# Altium footprint library PinHeader.PcbLib: 118 footprints (part 4 of 8)
Each footprint in its own frame and in the unit in brackets; x right, y up, seen from the top. Pads: shape width x height; smd on the part's side, far side on the other; paste and mask are expansions set on the pad; w line width, h text height; cw(c..) or ccw(c..) is an arc to the next point about the centre after c.
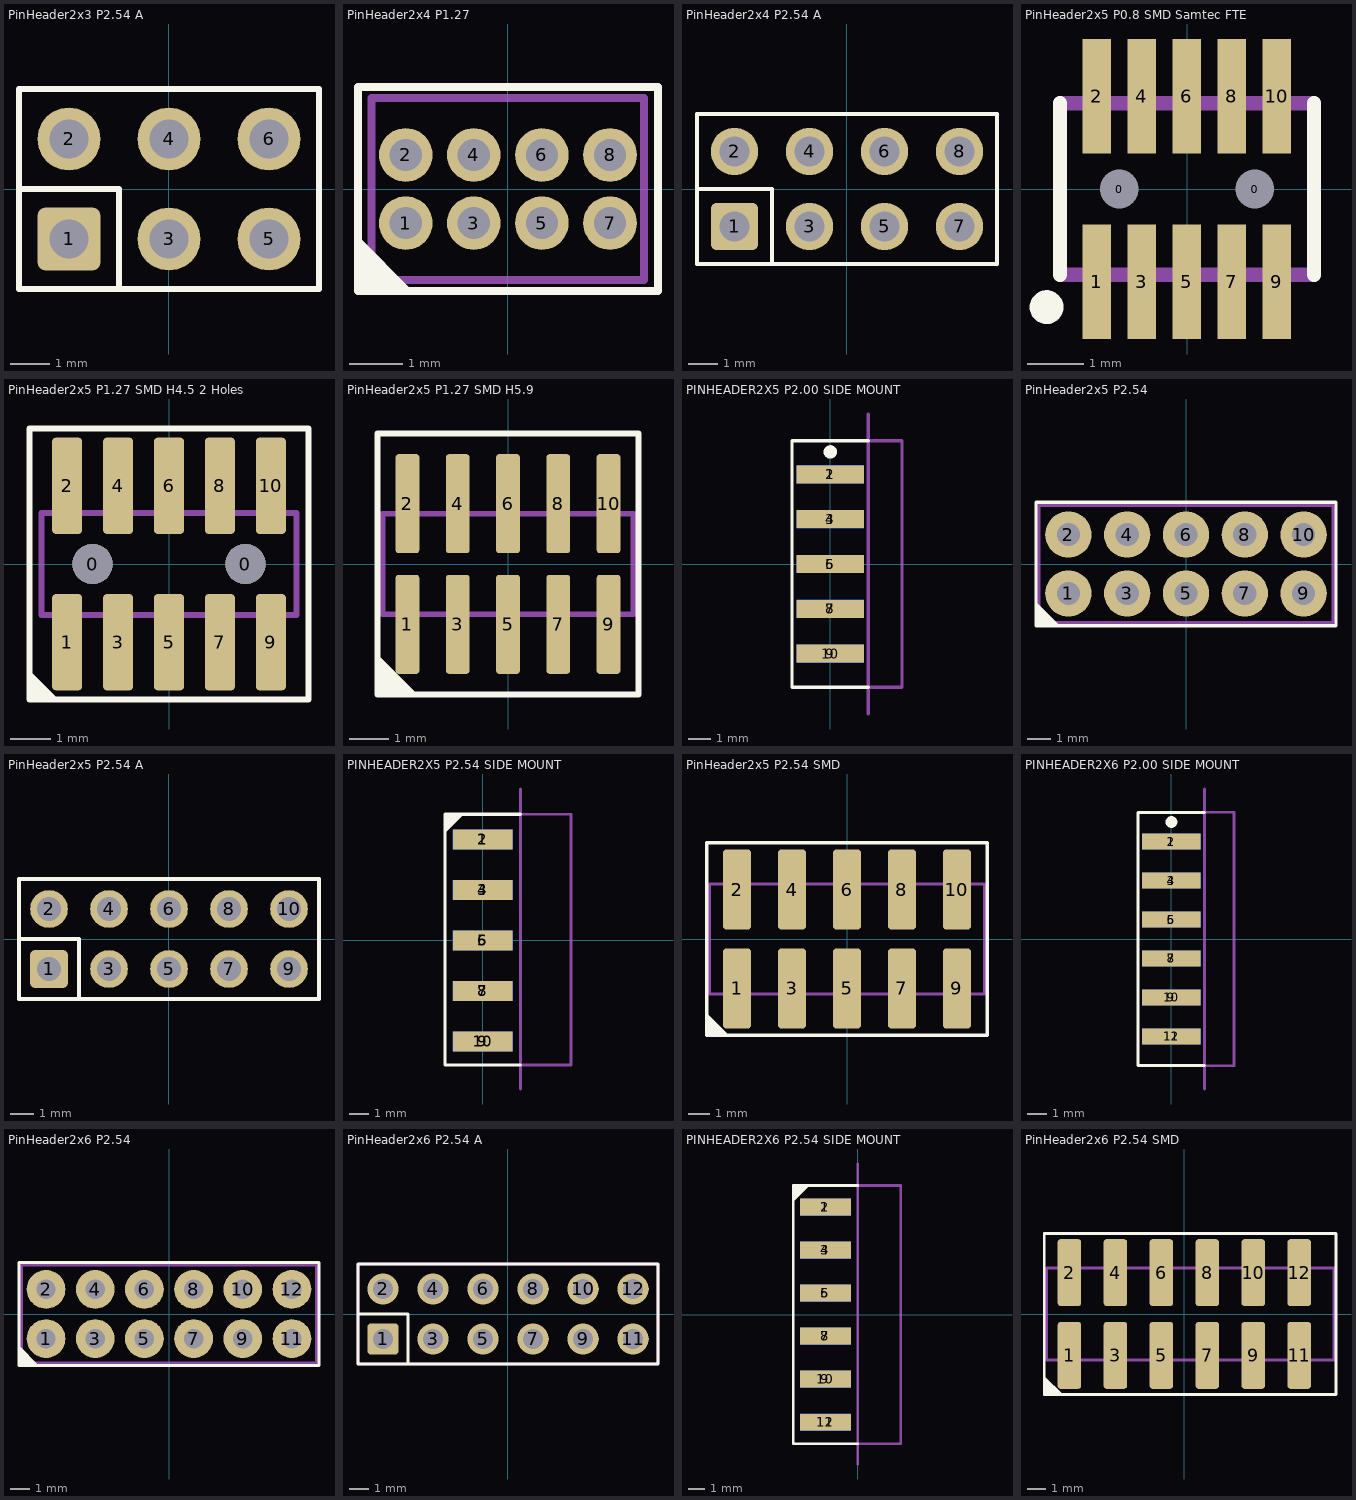
[diagram p3: the footprints below, top view; thin cyan lines are the x and y axes]

## PinHeader2x3 P2.54 A [mm] "Plug connector"
height 8.5
pads (6):
  rrect25% 1.6x1.6 hole 1: 1(-2.54,-1.27)
  round 1.6 hole 1: 2(-2.54,1.27) 3(0,-1.27) 4(0,1.27) 5(2.54,-1.27) 6(2.54,1.27)
Top Overlay:
  lines w0.15: -3.81,0 -1.27,0 -1.27,-2.54 ; -3.81,-2.54 -3.81,2.54 3.81,2.54 3.81,-2.54 -3.81,-2.54
Mechanical 13:
  lines w0.15: -3.81,-2.54 3.81,-2.54 3.81,2.54 -3.81,2.54 -3.81,-2.54
3D body: height 2.5, standoff 0.1, extent -3.81,-2.54 3.81,2.54
3D body: height 8.5, standoff 2.6, extent -2.857,-1.587 2.857,1.587

## PinHeader2x4 P1.27 [mm] "Plug connector"
height 5.3
pads (8):
  round 1 hole 0.6: 1(-1.905,-0.635) 2(-1.905,0.635) 3(-0.635,-0.635) 4(-0.635,0.635) 5(0.635,-0.635) 6(0.635,0.635) 7(1.905,-0.635) 8(1.905,0.635)
Top Overlay:
  region: -2.795,-1.9 -2.795,-0.884 -1.779,-1.9
  lines w0.15: -2.695,-1.9 -2.73,-1.9 -2.795,-1.9 ; -2.795,-1.9 2.8,-1.9 2.8,1.9 -2.795,1.9 -2.795,1.5 -2.795,-1.9
Mechanical 13:
  lines w0.15: -2.54,-1.7 -2.54,1.7 2.54,1.7 2.54,-1.7 -2.54,-1.7
3D body "62200821121 (rev1).stp": height 5.31, standoff -2.29, extent -2.54,-1.7 2.54,1.7

## PinHeader2x4 P2.54 A [mm] "Plug connector"
height 8.5
pads (8):
  rrect25% 1.6x1.6 hole 1: 1(-3.81,-1.27)
  round 1.6 hole 1: 2(-3.81,1.27) 3(-1.27,-1.27) 4(-1.27,1.27) 5(1.27,-1.27) 6(1.27,1.27) 7(3.81,-1.27) 8(3.81,1.27)
Top Overlay:
  lines w0.15: -5.08,0 -2.54,0 -2.54,-2.54 ; -5.08,-2.54 5.08,-2.54 5.08,2.54 -5.08,2.54 -5.08,-2.54
Mechanical 13:
  lines w0.15: -5.08,-2.54 -5.08,2.54 5.08,2.54 5.08,-2.54 -5.08,-2.54
3D body: height 8.5, standoff 2.6, extent -4.127,-1.587 4.127,1.587
3D body: height 2.5, standoff 0.1, extent -5.08,-2.54 5.08,2.54

## PinHeader2x5 P0.8 SMD Samtec FTE [mil] "Plug connector"
height 141.73
pads (12):
  round 10 hole 27 unplated mask+18.5: 0(-47.59,0) 0(47.24,0)
  rect 20x80 smd mask+2: 1(-63.34,-65) 2(-63.34,65) 3(-31.84,-65) 4(-31.84,65) 5(-0.34,-65) 6(-0.34,65) 7(31.16,-65) 8(31.16,65) 9(62.66,-65) 10(62.66,65)
Top Overlay:
  circle w11.81: c-98.43,-82.68 r5.91
  lines w10: -89.09,-60 -89.09,60 ; 88.74,-60 88.74,60
Mechanical 1:
  lines w10: -89.09,-60 88.74,-60 88.74,60 -89.09,60 -89.09,-60
3D body: height 141.73, standoff 0, extent 57.09,17.72 68.9,29.53
3D body: height 141.73, standoff 0, extent 57.08,-29.53 68.89,-17.72
3D body: height 11.81, standoff 0, extent 57.09,17.72 68.9,90.55
3D body: height 11.81, standoff 0, extent 57.08,-90.55 68.89,-17.72
3D body: height 141.73, standoff 0, extent 25.59,17.72 37.41,29.53
3D body: height 141.73, standoff 0, extent 25.59,-29.53 37.4,-17.72
3D body: height 11.81, standoff 0, extent 25.59,17.72 37.4,90.55
3D body: height 11.81, standoff 0, extent 25.59,-90.55 37.4,-17.72
3D body: height 141.73, standoff 0, extent -68.89,17.72 -57.08,29.53
3D body: height 141.73, standoff 0, extent -68.9,-29.53 -57.09,-17.72
3D body: height 11.81, standoff 0, extent -68.89,17.72 -57.08,90.55
3D body: height 11.81, standoff 0, extent -68.9,-90.55 -57.09,-17.72
3D body: height 141.73, standoff 0, extent -37.4,17.72 -25.59,29.53
3D body: height 141.73, standoff 0, extent -37.41,-29.53 -25.59,-17.72
3D body: height 11.81, standoff 0, extent -37.4,17.72 -25.59,90.55
3D body: height 11.81, standoff 0, extent -37.4,-90.55 -25.59,-17.72
3D body: height 11.81, standoff 0, extent -5.91,-90.55 5.9,-17.72
3D body: height 11.81, standoff 0, extent -5.9,17.72 5.91,90.55
3D body: height 141.73, standoff 0, extent -5.91,-29.53 5.9,-17.72
3D body: height 141.73, standoff 0, extent -5.9,17.72 5.91,29.53
3D body: height 66.93, standoff 0, extent -89.09,-60 88.74,60

## PinHeader2x5 P1.27 SMD H4.5 2 Holes [mm] "Plug connector SMD"
height 4.5
pads (12):
  round 1 hole 1 unplated: 0(-1.905,0) 0(1.905,0)
  rrect25% 0.75x2.4 smd: 1(-2.54,-1.95) 2(-2.54,1.95) 3(-1.27,-1.95) 4(-1.27,1.95) 5(0,-1.95) 6(0,1.95) 7(1.27,-1.95) 8(1.27,1.95) 9(2.54,-1.95) 10(2.54,1.95)
Top Overlay:
  region: -3.475,-3.375 -3.475,-2.667 -2.767,-3.375
  lines w0.15: -3.475,-3.375 3.475,-3.375 3.475,3.375 -3.475,3.375 -3.475,-3.375
Mechanical 13:
  lines w0.15: -3.175,-1.27 -3.175,1.27 3.175,1.27 3.175,-1.27 -3.175,-1.27
3D body: height 4.5, standoff 0, extent -1.47,0.448 -1.07,0.823
3D body: height 4.5, standoff 0, extent -2.74,0.448 -2.34,0.823
3D body: height 4.5, standoff 0, extent -2.74,-0.822 -2.34,-0.447
3D body: height 4.5, standoff 0, extent -1.47,-0.822 -1.07,-0.447
3D body: height 4.5, standoff 0, extent -0.2,-0.822 0.2,-0.447
3D body: height 4.5, standoff 0, extent 1.07,-0.822 1.47,-0.447
3D body: height 4.5, standoff 0, extent 2.34,-0.822 2.74,-0.447
3D body: height 4.5, standoff 0, extent 2.34,0.448 2.74,0.823
3D body: height 4.5, standoff 0, extent 1.07,0.448 1.47,0.823
3D body: height 4.5, standoff 0, extent -0.2,0.448 0.2,0.823
3D body: height 1.5, standoff 0.4, extent -3.175,-1.275 3.175,1.3

## PinHeader2x5 P1.27 SMD H5.9 [mm] "Plug connector"
height 5.9
pads (10):
  rrect25% 0.6x2.5 smd: 1(-2.54,-1.524) 2(-2.54,1.524) 3(-1.27,-1.524) 4(-1.27,1.524) 5(0,-1.524) 6(0,1.524) 7(1.27,-1.524) 8(1.27,1.524) 9(2.54,-1.524) 10(2.54,1.524)
Top Overlay:
  region: -3.302,-3.302 -3.302,-2.286 -2.286,-3.302
  lines w0.15: -3.302,-3.302 -3.302,3.302 3.302,3.302 3.302,-3.302 -3.302,-3.302
Mechanical 13:
  lines w0.15: -3.175,-1.27 3.175,-1.27 3.175,1.27 -3.175,1.27 -3.175,-1.27
3D body: height 5.9, standoff 0, extent -2.74,0.435 -2.34,0.835
3D body: height 0.4, standoff 0, extent -2.74,0.435 -2.34,2.54
3D body: height 5.9, standoff 0, extent -1.47,0.435 -1.07,0.835
3D body: height 0.4, standoff 0, extent -1.47,0.435 -1.07,2.54
3D body: height 5.9, standoff 0, extent -0.2,0.435 0.2,0.835
3D body: height 0.4, standoff 0, extent -0.2,0.435 0.2,2.54
3D body: height 5.9, standoff 0, extent 1.07,0.435 1.47,0.835
3D body: height 0.4, standoff 0, extent 1.07,0.435 1.47,2.54
3D body: height 5.9, standoff 0, extent 2.34,0.435 2.74,0.835
3D body: height 0.4, standoff 0, extent 2.34,0.435 2.74,2.54
3D body: height 5.9, standoff 0, extent 2.34,-0.835 2.74,-0.435
3D body: height 0.4, standoff 0, extent 2.34,-2.54 2.74,-0.435
3D body: height 5.9, standoff 0, extent 1.07,-0.835 1.47,-0.435
3D body: height 0.4, standoff 0, extent 1.07,-2.54 1.47,-0.435
3D body: height 5.9, standoff 0, extent -2.74,-0.835 -2.34,-0.435
3D body: height 0.4, standoff 0, extent -2.74,-2.54 -2.34,-0.435
3D body: height 5.9, standoff 0, extent -1.47,-0.835 -1.07,-0.435
3D body: height 0.4, standoff 0, extent -1.47,-2.54 -1.07,-0.435
3D body: height 0.4, standoff 0, extent -0.2,-2.54 0.2,-0.435
3D body: height 2.92, standoff 0.4, extent -3.175,-1.27 3.175,1.27
3D body: height 5.9, standoff 0, extent -0.2,-0.835 0.2,-0.435

## PINHEADER2X5 P2.00 SIDE MOUNT [mm] "Plug connector Mounted on PCB side"
height 2
pads (10):
  rect 3x0.8 smd: 1(0,4) 3(0,2) 5(0,0) 7(0,-2) 9(0,-4)
  rect 3x0.8 smd far side: 2(0,4) 4(0,2) 6(0,0) 8(0,-2) 10(0,-4)
Top Overlay:
  circle w0.3: c0,5 r0.15
  lines w0.152: 1.7,-5.5 -1.71,-5.5 -1.71,5.5 1.7,5.5
Bottom Overlay:
  lines w0.152: 1.7,-5.5 -1.71,-5.5 -1.71,5.5 1.7,5.5
Mechanical 1:
  lines w0.15: 1.7,-6.694 1.7,-5.5 ; 1.7,5.5 1.7,6.694
Mechanical 13:
  lines w0.15: 1.7,-5.5 3.2,-5.5 3.2,5.5 1.7,5.5 1.7,-5.5
Mechanical 14:
  lines w0.15: 1.7,-5.5 1.7,5.5 3.2,5.5 3.2,-5.5 1.7,-5.5
Mechanical 15:
  lines w0.05: 1.7,-5.5 -1.71,-5.5 -1.71,5.5 1.7,5.5
3D body: height 0.5, standoff 0, extent -1.3,-4.259 6.7,-3.741
3D body: height 0.5, standoff 0, extent -1.3,-2.259 6.7,-1.741
3D body: height 0.5, standoff 0, extent -1.3,-0.259 6.7,0.259
3D body: height 0.5, standoff 0, extent -1.3,1.741 6.7,2.259
3D body: height 0.5, standoff 0, extent -1.3,3.741 6.7,4.259
3D body: height 1.75, standoff -1, extent 1.7,-5.5 3.2,5.5
3D body: height 0.5, standoff 0, extent -1.3,-4.259 6.7,-3.741
3D body: height 0.5, standoff 0, extent -1.3,-2.259 6.7,-1.741
3D body: height 0.5, standoff 0, extent -1.3,-0.259 6.7,0.259
3D body: height 0.5, standoff 0, extent -1.3,1.741 6.7,2.259
3D body: height 0.5, standoff 0, extent -1.3,3.741 6.7,4.259
3D body: height 1.75, standoff -1, extent 1.7,-5.5 3.2,5.5

## PinHeader2x5 P2.54 [mm] "Plug connector"
height 8.5
pads (10):
  round 2 hole 1: 1(-5.08,-1.27) 2(-5.08,1.27) 3(-2.54,-1.27) 4(-2.54,1.27) 5(0,-1.27) 6(0,1.27) 7(2.54,-1.27) 8(2.54,1.27) 9(5.08,-1.27) 10(5.08,1.27)
Top Overlay:
  region: -6.477,-2.667 -6.477,-1.651 -5.461,-2.667
  lines w0.15: -6.477,-2.667 6.477,-2.667 6.477,2.667 -6.477,2.667 -6.477,-2.667
Mechanical 13:
  lines w0.15: -6.35,-2.54 -6.35,2.54 6.35,2.54 6.35,-2.54 -6.35,-2.54
3D body: height 8.5, standoff -2.5, extent -5.46,-1.65 -4.7,-0.89
3D body: height 8.5, standoff -2.5, extent 4.7,-1.65 5.461,-0.89
3D body: height 8.5, standoff -2.5, extent -2.92,-1.65 -2.16,-0.89
3D body: height 8.5, standoff -2.5, extent -0.38,-1.65 0.381,-0.89
3D body: height 8.5, standoff -2.5, extent 2.16,-1.65 2.921,-0.89
3D body: height 8.5, standoff -2.5, extent 2.16,0.89 2.921,1.65
3D body: height 8.5, standoff -2.5, extent -0.38,0.89 0.381,1.65
3D body: height 8.5, standoff -2.5, extent -2.92,0.89 -2.16,1.65
3D body: height 8.5, standoff -2.5, extent 4.7,0.89 5.461,1.65
3D body: height 8.5, standoff -2.5, extent -5.46,0.89 -4.7,1.65
3D body: height 2.54, standoff 0, extent -6.35,-2.54 6.35,2.54

## PinHeader2x5 P2.54 A [mm] "Plug connector"
height 8.5
pads (10):
  rrect25% 1.6x1.6 hole 1: 1(-5.08,-1.27)
  round 1.6 hole 1: 2(-5.08,1.27) 3(-2.54,-1.27) 4(-2.54,1.27) 5(0,-1.27) 6(0,1.27) 7(2.54,-1.27) 8(2.54,1.27) 9(5.08,-1.27) 10(5.08,1.27)
Top Overlay:
  lines w0.15: -6.35,0 -3.81,0 -3.81,-2.54 ; -6.35,-2.54 -6.35,2.54 6.35,2.54 6.35,-2.54 -6.35,-2.54
Mechanical 13:
  lines w0.15: -6.35,-2.54 6.35,-2.54 6.35,2.54 -6.35,2.54 -6.35,-2.54
3D body: height 2.5, standoff 0.1, extent -6.35,-2.54 6.35,2.54
3D body: height 8.5, standoff 2.6, extent -5.397,-1.587 5.397,1.587

## PINHEADER2X5 P2.54 SIDE MOUNT [mm] "Plug connector Mounted on PCB side"
height 2.54
pads (10):
  rect 3x1 smd: 1(0,5.08) 3(0,2.54) 5(0,0) 7(0,-2.54) 9(0,-5.08)
  rect 3x1 smd far side: 2(0,5.08) 4(0,2.54) 6(0,0) 8(0,-2.54) 10(0,-5.08)
Top Overlay:
  region: -1.905,6.35 -1.905,5.397 -0.952,6.35
  lines w0.152: 1.905,-6.27 -1.905,-6.27 -1.905,6.35 1.905,6.35
Bottom Overlay:
  lines w0.152: 1.905,-6.27 -1.905,-6.27 -1.905,6.35 1.905,6.35
Mechanical 1:
  lines w0.15: 1.905,-7.47 1.905,-6.276 ; 1.905,6.426 1.905,7.62
Mechanical 13:
  lines w0.15: 1.905,-6.27 1.905,6.35 4.445,6.35 4.445,-6.27 1.905,-6.27
Mechanical 14:
  lines w0.15: 1.905,-6.27 4.445,-6.27 4.445,6.35 1.905,6.35 1.905,-6.27
Mechanical 15:
  lines w0.05: 1.905,-6.27 -1.905,-6.27 -1.905,6.35 1.905,6.35
3D body: height 1.75, standoff -1, extent 1.905,-6.27 4.445,6.35
3D body: height 0.83, standoff 0.2, extent -0.952,4.763 10.478,5.397
3D body: height 0.83, standoff 0.2, extent -0.952,2.222 10.478,2.857
3D body: height 0.83, standoff 0.2, extent -0.952,-0.318 10.478,0.318
3D body: height 0.83, standoff 0.2, extent -0.952,-2.857 10.478,-2.222
3D body: height 0.83, standoff 0.2, extent -0.952,-5.397 10.478,-4.763
3D body: height 1.75, standoff -1, extent 1.905,-6.27 4.445,6.35
3D body: height 1.75, standoff -1, extent 1.905,-6.27 4.445,6.35
3D body: height 0.83, standoff 0.2, extent -0.952,4.763 10.478,5.397
3D body: height 0.83, standoff 0.2, extent -0.952,2.222 10.478,2.857
3D body: height 0.83, standoff 0.2, extent -0.952,-2.857 10.478,-2.222
3D body: height 0.83, standoff 0.2, extent -0.952,-0.318 10.478,0.318
3D body: height 0.83, standoff 0.2, extent -0.952,-5.397 10.478,-4.763

## PinHeader2x5 P2.54 SMD [mm] "Plug connector"
height 8.5
pads (10):
  rrect25% 1.3x3.7 smd: 1(-5.08,-2.286) 2(-5.08,2.286) 3(-2.54,-2.286) 4(-2.54,2.286) 5(0,-2.286) 6(0,2.286) 7(2.54,-2.286) 8(2.54,2.286) 9(5.08,-2.286) 10(5.08,2.286)
Top Overlay:
  region: -6.477,-4.445 -6.477,-3.429 -5.461,-4.445
  lines w0.15: -6.477,-4.445 -6.477,4.445 6.477,4.445 6.477,-4.445 -6.477,-4.445
Mechanical 13:
  lines w0.15: -6.35,-2.54 6.35,-2.54 6.35,2.54 -6.35,2.54 -6.35,-2.54
3D body: height 8.5, standoff 0, extent -5.461,0.89 -4.7,1.651
3D body: height 8.5, standoff 0, extent 4.7,0.89 5.461,1.651
3D body: height 8.5, standoff 0, extent -2.921,0.89 -2.16,1.651
3D body: height 8.5, standoff 0, extent -0.38,0.89 0.381,1.651
3D body: height 8.5, standoff 0, extent 2.16,0.89 2.921,1.651
3D body: height 0.76, standoff 0, extent 4.7,0.89 5.461,3.429
3D body: height 0.76, standoff 0, extent 2.16,0.89 2.921,3.429
3D body: height 0.76, standoff 0, extent -0.38,0.89 0.381,3.429
3D body: height 0.76, standoff 0, extent -2.921,0.89 -2.16,3.429
3D body: height 0.76, standoff 0, extent -5.461,0.89 -4.7,3.429
3D body: height 0.76, standoff 0, extent 4.7,-3.429 5.461,-0.889
3D body: height 0.76, standoff 0, extent 2.16,-3.429 2.921,-0.889
3D body: height 0.76, standoff 0, extent -0.38,-3.429 0.381,-0.889
3D body: height 0.76, standoff 0, extent -2.92,-3.429 -2.159,-0.889
3D body: height 0.76, standoff 0, extent -5.46,-3.429 -4.699,-0.889
3D body: height 3.56, standoff 1.27, extent -6.35,-2.54 6.35,2.54
3D body: height 8.5, standoff 0, extent -5.46,-1.65 -4.699,-0.889
3D body: height 8.5, standoff 0, extent 4.7,-1.65 5.461,-0.889
3D body: height 8.5, standoff 0, extent -2.92,-1.65 -2.159,-0.889
3D body: height 8.5, standoff 0, extent -0.38,-1.65 0.381,-0.889
3D body: height 8.5, standoff 0, extent 2.16,-1.65 2.921,-0.889

## PINHEADER2X6 P2.00 SIDE MOUNT [mm] "Plug connector Mounted on PCB side"
height 2
pads (12):
  rect 3x0.8 smd: 1(0,5) 3(0,3) 5(0,1) 7(0,-1) 9(0,-3) 11(0,-5)
  rect 3x0.8 smd far side: 2(0,5) 4(0,3) 6(0,1) 8(0,-1) 10(0,-3) 12(0,-5)
Top Overlay:
  circle w0.3: c0,6 r0.15
  lines w0.152: 1.7,-6.5 -1.71,-6.5 -1.71,6.5 1.7,6.5
Bottom Overlay:
  lines w0.152: 1.7,-6.5 -1.71,-6.5 -1.71,6.5 1.7,6.5
Mechanical 1:
  lines w0.15: 1.7,-7.694 1.7,-6.5 ; 1.7,6.5 1.7,7.694
Mechanical 13:
  lines w0.15: 1.7,-6.5 3.2,-6.5 3.2,6.5 1.7,6.5 1.7,-6.5
Mechanical 14:
  lines w0.15: 1.7,-6.5 1.7,6.5 3.2,6.5 3.2,-6.5 1.7,-6.5
Mechanical 15:
  lines w0.05: 1.7,-6.5 -1.71,-6.5 -1.71,6.5 1.7,6.5
3D body: height 0.5, standoff 0, extent -1.3,-3.259 6.7,-2.741
3D body: height 0.5, standoff 0, extent -1.3,-1.259 6.7,-0.741
3D body: height 0.5, standoff 0, extent -1.3,0.741 6.7,1.259
3D body: height 0.5, standoff 0, extent -1.3,2.741 6.7,3.259
3D body: height 0.5, standoff 0, extent -1.3,4.741 6.7,5.259
3D body: height 1.75, standoff -1, extent 1.7,-6.5 3.2,6.5
3D body: height 0.5, standoff 0, extent -1.3,-5.259 6.7,-4.741
3D body: height 0.5, standoff 0, extent -1.3,-3.259 6.7,-2.741
3D body: height 0.5, standoff 0, extent -1.3,-1.259 6.7,-0.741
3D body: height 0.5, standoff 0, extent -1.3,0.741 6.7,1.259
3D body: height 0.5, standoff 0, extent -1.3,2.741 6.7,3.259
3D body: height 0.5, standoff 0, extent -1.3,4.741 6.7,5.259
3D body: height 1.75, standoff -1, extent 1.7,-6.5 3.2,6.5
3D body: height 0.5, standoff 0, extent -1.3,-5.259 6.7,-4.741

## PinHeader2x6 P2.54 [mm] "Plug connector"
height 8.5
pads (12):
  round 2 hole 1: 1(-6.35,-1.27) 2(-6.35,1.27) 3(-3.81,-1.27) 4(-3.81,1.27) 5(-1.27,-1.27) 6(-1.27,1.27) 7(1.27,-1.27) 8(1.27,1.27) 9(3.81,-1.27) 10(3.81,1.27) 11(6.35,-1.27) 12(6.35,1.27)
Top Overlay:
  region: -7.747,-2.667 -7.747,-1.651 -6.731,-2.667
  lines w0.15: -7.747,-2.667 -7.747,2.667 7.747,2.667 7.747,-2.667 -7.747,-2.667
Mechanical 13:
  lines w0.15: -7.62,-2.54 -7.62,2.54 7.62,2.54 7.62,-2.54 -7.62,-2.54
3D body: height 2.54, standoff 0, extent -7.62,-2.54 7.62,2.54
3D body: height 8.5, standoff -2.5, extent -6.73,0.89 -5.97,1.65
3D body: height 8.5, standoff -2.5, extent 3.43,0.89 4.191,1.65
3D body: height 8.5, standoff -2.5, extent -4.19,0.89 -3.43,1.65
3D body: height 8.5, standoff -2.5, extent -1.65,0.89 -0.889,1.65
3D body: height 8.5, standoff -2.5, extent 0.89,0.89 1.651,1.65
3D body: height 8.5, standoff -2.5, extent 5.97,0.89 6.731,1.65
3D body: height 8.5, standoff -2.5, extent 5.97,-1.65 6.731,-0.89
3D body: height 8.5, standoff -2.5, extent 0.89,-1.65 1.651,-0.89
3D body: height 8.5, standoff -2.5, extent -1.65,-1.65 -0.889,-0.89
3D body: height 8.5, standoff -2.5, extent -4.19,-1.65 -3.43,-0.89
3D body: height 8.5, standoff -2.5, extent 3.43,-1.65 4.191,-0.89
3D body: height 8.5, standoff -2.5, extent -6.73,-1.65 -5.97,-0.89

## PinHeader2x6 P2.54 A [mm] "Plug connector"
height 8.5
pads (12):
  rrect25% 1.6x1.6 hole 1: 1(-6.35,-1.27)
  round 1.6 hole 1: 2(-6.35,1.27) 3(-3.81,-1.27) 4(-3.81,1.27) 5(-1.27,-1.27) 6(-1.27,1.27) 7(1.27,-1.27) 8(1.27,1.27) 9(3.81,-1.27) 10(3.81,1.27) 11(6.35,-1.27) 12(6.35,1.27)
Top Overlay:
  lines w0.15: -7.62,0 -5.08,0 -5.08,-2.54 ; -7.62,-2.54 -7.62,2.54 7.62,2.54 7.62,-2.54 -7.62,-2.54
Mechanical 13:
  lines w0.15: -7.62,-2.54 7.62,-2.54 7.62,2.54 -7.62,2.54 -7.62,-2.54
3D body: height 2.5, standoff 0.1, extent -7.62,-2.54 7.62,2.54
3D body: height 8.5, standoff 2.6, extent -6.667,-1.587 6.667,1.587

## PINHEADER2X6 P2.54 SIDE MOUNT [mm] "Plug connector Mounted on PCB side"
height 2.54
pads (12):
  rect 3x1 smd: 1(-1.905,6.35) 3(-1.905,3.81) 5(-1.905,1.27) 7(-1.905,-1.27) 9(-1.905,-3.81) 11(-1.905,-6.35)
  rect 3x1 smd far side: 2(-1.905,6.35) 4(-1.905,3.81) 6(-1.905,1.27) 8(-1.905,-1.27) 10(-1.905,-3.81) 12(-1.905,-6.35)
Top Overlay:
  region: -3.81,7.62 -3.81,6.667 -2.857,7.62
  lines w0.152: 0,-7.62 -3.81,-7.62 -3.81,7.62 0,7.62
Bottom Overlay:
  lines w0.152: 0,-7.62 -3.81,-7.62 -3.81,7.62 0,7.62
Mechanical 1:
  lines w0.15: 0,-8.814 0,-7.62 ; 0,7.696 0,8.89
Mechanical 13:
  lines w0.15: 0,-7.62 0,7.62 2.54,7.62 2.54,-7.62 0,-7.62
Mechanical 14:
  lines w0.15: 0,-7.62 2.54,-7.62 2.54,7.62 0,7.62 0,-7.62
Mechanical 15:
  lines w0.05: 0,-7.62 -3.81,-7.62 -3.81,7.62 0,7.62
3D body: height 1.75, standoff -1, extent 0,-7.62 2.54,7.62
3D body: height 0.83, standoff 0.2, extent -2.857,6.032 8.572,6.667
3D body: height 0.83, standoff 0.2, extent -2.857,3.492 8.572,4.127
3D body: height 0.83, standoff 0.2, extent -2.857,0.953 8.572,1.587
3D body: height 0.83, standoff 0.2, extent -2.857,-1.587 8.572,-0.953
3D body: height 0.83, standoff 0.2, extent -2.857,-4.127 8.572,-3.492
3D body: height 0.83, standoff 0.2, extent -2.857,-6.667 8.572,-6.032
3D body: height 1.75, standoff -1, extent 0,-7.62 2.54,7.62
3D body: height 1.75, standoff -1, extent 0,-7.62 2.54,7.62
3D body: height 0.83, standoff 0.2, extent -2.857,6.032 8.572,6.667
3D body: height 0.83, standoff 0.2, extent -2.857,3.492 8.572,4.127
3D body: height 0.83, standoff 0.2, extent -2.857,-1.587 8.572,-0.953
3D body: height 0.83, standoff 0.2, extent -2.857,0.953 8.572,1.587
3D body: height 0.83, standoff 0.2, extent -2.857,-6.667 8.572,-6.032
3D body: height 0.83, standoff 0.2, extent -2.857,-4.127 8.572,-3.492

## PinHeader2x6 P2.54 SMD [mm] "Plug connector"
height 8.5
pads (12):
  rrect25% 1.3x3.7 smd: 1(-6.35,-2.286) 2(-6.35,2.286) 3(-3.81,-2.286) 4(-3.81,2.286) 5(-1.27,-2.286) 6(-1.27,2.286) 7(1.27,-2.286) 8(1.27,2.286) 9(3.81,-2.286) 10(3.81,2.286) 11(6.35,-2.286) 12(6.35,2.286)
Top Overlay:
  region: -7.747,-4.445 -7.747,-3.429 -6.731,-4.445
  lines w0.15: -7.747,-4.445 -7.747,4.445 8.382,4.445 8.382,-4.445 -7.747,-4.445
Mechanical 13:
  lines w0.15: -7.62,-2.54 8.255,-2.54 8.255,2.54 -7.62,2.54 -7.62,-2.54
3D body: height 8.5, standoff 0, extent -6.731,0.89 -5.97,1.651
3D body: height 8.5, standoff 0, extent 3.43,0.89 4.191,1.651
3D body: height 8.5, standoff 0, extent -4.191,0.89 -3.43,1.651
3D body: height 8.5, standoff 0, extent -1.65,0.89 -0.889,1.651
3D body: height 8.5, standoff 0, extent 0.89,0.89 1.651,1.651
3D body: height 8.5, standoff 0, extent 5.97,0.89 6.731,1.651
3D body: height 0.76, standoff 0, extent 5.97,0.89 6.731,3.429
3D body: height 0.76, standoff 0, extent 3.43,0.89 4.191,3.429
3D body: height 0.76, standoff 0, extent 0.89,0.89 1.651,3.429
3D body: height 0.76, standoff 0, extent -1.65,0.89 -0.889,3.429
3D body: height 0.76, standoff 0, extent -4.191,0.89 -3.43,3.429
3D body: height 0.76, standoff 0, extent -6.731,0.89 -5.97,3.429
3D body: height 0.76, standoff 0, extent 5.97,-3.429 6.731,-0.889
3D body: height 0.76, standoff 0, extent 3.43,-3.429 4.191,-0.889
3D body: height 0.76, standoff 0, extent 0.89,-3.429 1.651,-0.889
3D body: height 0.76, standoff 0, extent -1.65,-3.429 -0.889,-0.889
3D body: height 0.76, standoff 0, extent -4.19,-3.429 -3.429,-0.889
3D body: height 0.76, standoff 0, extent -6.73,-3.429 -5.969,-0.889
3D body: height 3.56, standoff 1.27, extent -7.62,-2.54 8.255,2.54
3D body: height 8.5, standoff 0, extent -6.73,-1.65 -5.969,-0.889
3D body: height 8.5, standoff 0, extent 3.43,-1.65 4.191,-0.889
3D body: height 8.5, standoff 0, extent -4.19,-1.65 -3.429,-0.889
3D body: height 8.5, standoff 0, extent -1.65,-1.65 -0.889,-0.889
3D body: height 8.5, standoff 0, extent 0.89,-1.65 1.651,-0.889
3D body: height 8.5, standoff 0, extent 5.97,-1.65 6.731,-0.889